# EAGLE library part UCC24636DBVR (library SamacSys_Parts)
Synchronous Rectifier Controller With Ultra-Low Standby Current Source: Datasheet <http://www.ti.com/lit/gpn/ucc24636>
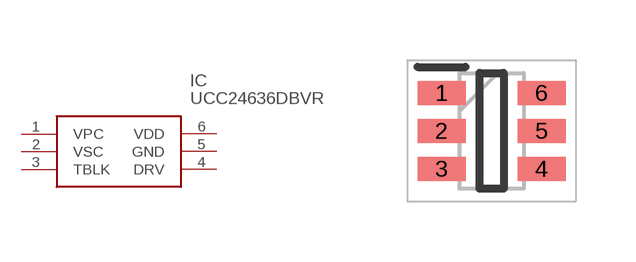
[diagram p8: symbol with the pads of SOT95P280X145-6N; footprint SOT95P280X145-6N]

Designator prefix IC

## UCC24636DBVR (DESCRIPTION: Synchronous Rectifier Controller With Ultra-Low Standby Current; HEIGHT: 1.45mm; MANUFACTURER_NAME: Texas Instruments; MANUFACTURER_PART_NUMBER: UCC24636DBVR; MOUSER_PART_NUMBER: 595-UCC24636DBVR; MOUSER_PRICE-STOCK: https://www.mouser.com/Search/Refine.aspx?Keyword=595-UCC24636DBVR)  [SOT95P280X145-6N]
1  VPC
2  VSC
3  TBLK
4  DRV
5  GND
6  VDD

## Footprint SOT95P280X145-6N (pad centres in mm)
DBV (R-PDSO-G6)
smd 1.2 x 0.6: 1 -1.25,0.95; 2 -1.25,0; 3 -1.25,-0.95; 4 1.25,-0.95; 5 1.25,0; 6 1.25,0.95